# Altium footprint library ESP32S3WROOM1N8R2.PcbLib: 28 footprints (part 2 of 2)
Each footprint in its own frame and in the unit in brackets; x right, y up, seen from the top. Pads: shape width x height; smd on the part's side, far side on the other; paste and mask are expansions set on the pad; w line width, h text height; cw(c..) or ccw(c..) is an arc to the next point about the centre after c.
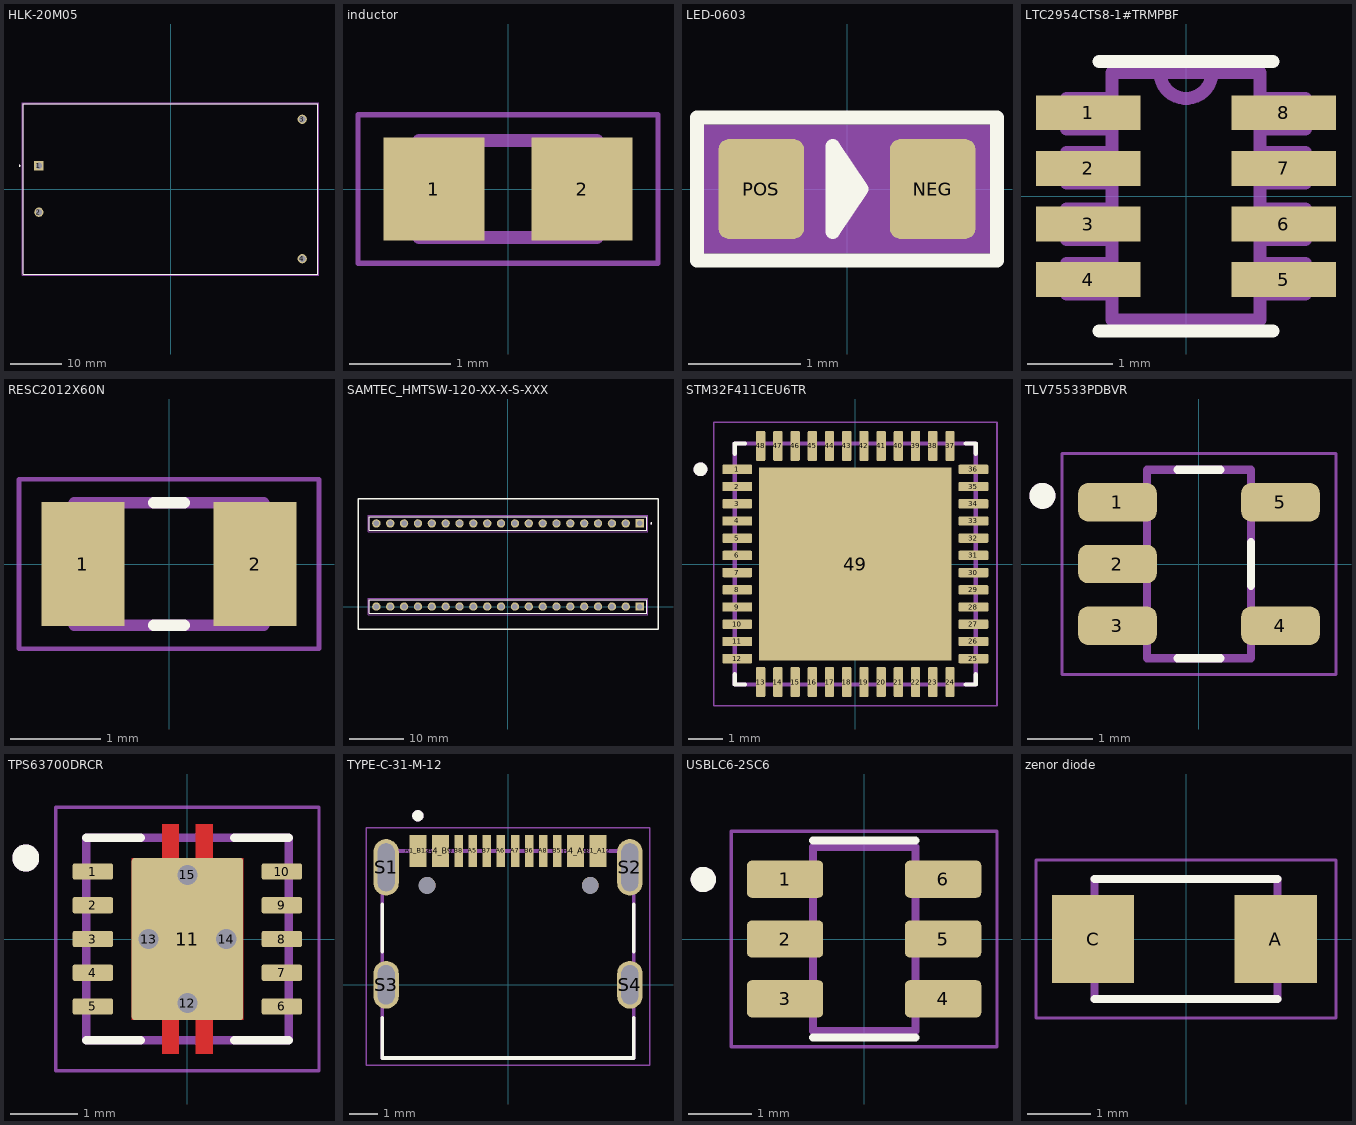
[diagram p1: the footprints below, top view; thin cyan lines are the x and y axes]

## HLK-20M05 [mm]
pads (4):
  rect 1.8x1.8 hole 1.2: 1(-25.5,4.5)
  round 1.8 hole 1.2: 2(-25.5,-4.5) 3(25.5,13.5) 4(25.5,-13.5)
Top Overlay:
  circle w0.2: c-29.25,4.5 r0.1
  lines w0.127: -28.5,-16.5 28.5,-16.5 28.5,16.5 -28.5,16.5 -28.5,-16.5
Mechanical 13:
  circle w0.2: c-29.25,4.5 r0.1
  lines w0.127: -28.5,-16.5 28.5,-16.5 28.5,16.5 -28.5,16.5 -28.5,-16.5
Mechanical 15:
  lines w0.05: -28.75,-16.75 28.75,-16.75 28.75,16.75 -28.75,16.75 -28.75,-16.75
3D body "step_temp.STEP": height 22.5, standoff -5, extent -28.5,-16.5 28.5,16.5

## inductor [mm]
pads (2):
  rect 1x1.02 smd: 1(-0.735,0) 2(0.735,0)
Mechanical 13:
  lines w0.127: -0.88,-0.48 0.88,-0.48 0.88,0.48 -0.88,0.48 -0.88,-0.48
Mechanical 15:
  lines w0.05: -1.485,-0.735 1.485,-0.735 1.485,0.735 -1.485,0.735 -1.485,-0.735

## LED-0603 [mil]
pads (2):
  rrect25% 30x35 smd: NEG(30,0) POS(-30,0)
Top Overlay:
  lines w5: 0,-7.5 0,7.5 ; 0,-7.5 5,0 0,7.5 ; 0,-7.5 -5,-15 -5,15 0,7.5 ; -52.5,-25 -52.5,25 52.5,25 52.5,-25 -52.5,-25
Mechanical 15:
  region: 50,-22.52 -50.04,-22.52 -50.04,22.5 50,22.5

## LTC2954CTS8-1#TRMPBF [mil]
pads (8):
  rect 48x16 smd: 1(-45,38.39) 2(-45,12.8) 3(-45,-12.8) 4(-45,-38.39) 5(45,-38.39) 6(45,-12.8) 7(45,12.8) 8(45,38.39)
Top Overlay:
  lines w6: -40,-62 40,-62 ; -40,62 40,62
Mechanical 13:
  lines w6: -12,57 ccw(c0,57) 12,57 ; -12,57 12,57 ; -12,57 -34,57 -34,-57 34,-57 34,57 12,57 ; -55,-45 -55,-31 -34,-31 -34,-45 -55,-45 ; -55,-20 -55,-6 -34,-6 -34,-20 -55,-20 ; -55,6 -55,20 -34,20 -34,6 -55,6 ; -55,31 -55,45 -34,45 -34,31 -55,31 ; 34,-45 34,-31 55,-31 55,-45 34,-45 ; 34,-20 34,-6 55,-6 55,-20 34,-20 ; 34,6 34,20 55,20 55,6 34,6 ; 34,31 34,45 55,45 55,31 34,31

## RESC2012X60N [mm]
pads (2):
  rect 0.92x1.38 smd: 1(-0.955,0) 2(0.955,0)
Top Overlay:
  lines w0.127: -0.17,-0.68 0.17,-0.68 ; -0.17,0.68 0.17,0.68
Mechanical 13:
  lines w0.127: -1.05,-0.68 -1.05,0.68 1.05,0.68 1.05,-0.68 -1.05,-0.68
Mechanical 15:
  lines w0.05: -1.665,-0.94 -1.665,0.94 1.665,0.94 1.665,-0.94 -1.665,-0.94
3D body "step_temp.STEP": height 0.6, standoff 0, extent -1,-0.625 1,0.625

## SAMTEC_HMTSW-120-XX-X-S-XXX [mm]
pads (40):
  rect 1.53x1.53 / inner round 1.53 / far side rect 1.53x1.53 hole 1.02: 01(24.13,15.24) 21(24.13,0)
  round 1.53 hole 1.02: 02(21.59,15.24) 03(19.05,15.24) 04(16.51,15.24) 05(13.97,15.24) 06(11.43,15.24) 07(8.89,15.24) 08(6.35,15.24) 09(3.81,15.24) 10(1.27,15.24) 11(-1.27,15.24) 12(-3.81,15.24) 13(-6.35,15.24) 14(-8.89,15.24) 15(-11.43,15.24) 16(-13.97,15.24) 17(-16.51,15.24) 18(-19.05,15.24) 19(-21.59,15.24) 20(-24.13,15.24) 22(21.59,0) 23(19.05,0) 24(16.51,0) 25(13.97,0) 26(11.43,0) 27(8.89,0) 28(6.35,0) 29(3.81,0) 30(1.27,0) 31(-1.27,0) 32(-3.81,0) 33(-6.35,0) 34(-8.89,0) 35(-11.43,0) 36(-13.97,0) 37(-16.51,0) 38(-19.05,0) 39(-21.59,0) 40(-24.13,0)
Top Overlay:
  circle w0.2: c26.289,15.24 r0.1
  lines w0.2: -25.4,-1.24 -25.4,1.24 25.4,1.24 25.4,-1.24 -25.4,-1.24 ; -25.4,14 -25.4,16.48 25.4,16.48 25.4,14 -25.4,14
  lines w0.254: -27.5,-4.2 27.5,-4.2 27.5,19.8 -27.5,19.8 -27.5,-4.2
Mechanical 13:
  circle w0.2: c26.289,15.24 r0.1
  lines w0.1: -25.4,-1.24 25.4,-1.24 25.4,1.24 -25.4,1.24 -25.4,-1.24 ; -25.4,14 25.4,14 25.4,16.48 -25.4,16.48 -25.4,14
Mechanical 15:
  lines w0.05: -25.65,-1.49 25.65,-1.49 25.65,1.49 -25.65,1.49 -25.65,-1.49 ; -25.65,13.75 25.65,13.75 25.65,16.73 -25.65,16.73 -25.65,13.75

## STM32F411CEU6TR [mm]
height 0.65
pads (49):
  rrect25% 0.87x0.27 smd: 1(-3.43,2.75) 2(-3.43,2.25) 3(-3.43,1.75) 4(-3.43,1.25) 5(-3.43,0.75) 6(-3.43,0.25) 7(-3.43,-0.25) 8(-3.43,-0.75) 9(-3.43,-1.25) 10(-3.43,-1.75) 11(-3.43,-2.25) 12(-3.43,-2.75) 25(3.43,-2.75) 26(3.43,-2.25) 27(3.43,-1.75) 28(3.43,-1.25) 29(3.43,-0.75) 30(3.43,-0.25) 31(3.43,0.25) 32(3.43,0.75) 33(3.43,1.25) 34(3.43,1.75) 35(3.43,2.25) 36(3.43,2.75)
  rrect25% 0.27x0.87 smd: 13(-2.75,-3.43) 14(-2.25,-3.43) 15(-1.75,-3.43) 16(-1.25,-3.43) 17(-0.75,-3.43) 18(-0.25,-3.43) 19(0.25,-3.43) 20(0.75,-3.43) 21(1.25,-3.43) 22(1.75,-3.43) 23(2.25,-3.43) 24(2.75,-3.43) 37(2.75,3.43) 38(2.25,3.43) 39(1.75,3.43) 40(1.25,3.43) 41(0.75,3.43) 42(0.25,3.43) 43(-0.25,3.43) 44(-0.75,3.43) 45(-1.25,3.43) 46(-1.75,3.43) 47(-2.25,3.43) 48(-2.75,3.43)
  rect 5.6x5.6 smd paste-4: 49(0,0)
Top Overlay:
  circle w0.2: c-4.5,2.75 r0.1
  lines w0.127: -3.5,-3.205 -3.5,-3.5 -3.205,-3.5 ; -3.5,3.205 -3.5,3.5 -3.205,3.5 ; 3.205,-3.5 3.5,-3.5 3.5,-3.205 ; 3.205,3.5 3.5,3.5 3.5,3.205
Top Paste:
  region: -0.51,0.51 -2.29,0.51 -2.29,2.29 -0.51,2.29
  region: 2.29,0.51 0.51,0.51 0.51,2.29 2.29,2.29
  region: -0.51,-2.29 -2.29,-2.29 -2.29,-0.51 -0.51,-0.51
  region: 2.29,-2.29 0.51,-2.29 0.51,-0.51 2.29,-0.51
Mechanical 13:
  circle w0.2: c-4.5,2.75 r0.1
  lines w0.127: -3.5,-3.5 3.5,-3.5 3.5,3.5 -3.5,3.5 -3.5,-3.5
Mechanical 15:
  lines w0.05: -4.115,-4.115 4.115,-4.115 4.115,4.115 -4.115,4.115 -4.115,-4.115
3D body "step_temp.STEP": height 0.6, standoff 0, extent -3.5,-3.5 3.5,3.5

## TLV75533PDBVR [mm]
pads (5):
  rrect50% 1.21x0.59 smd: 1(-1.255,0.95) 2(-1.255,0) 3(-1.255,-0.95) 4(1.255,-0.95) 5(1.255,0.95)
Top Overlay:
  circle w0.2: c-2.41,1.05 r0.1
  lines w0.127: -0.33,-1.45 0.33,-1.45 ; -0.33,1.45 0.33,1.45 ; 0.8,-0.335 0.8,0.335
Mechanical 13:
  circle w0.2: c-2.41,1.05 r0.1
  lines w0.127: -0.8,-1.45 0.8,-1.45 0.8,1.45 -0.8,1.45 -0.8,-1.45
Mechanical 15:
  lines w0.05: -2.11,-1.7 -2.11,1.7 2.11,1.7 2.11,-1.7 -2.11,-1.7
3D body "step_temp.STEP": height 1.45, standoff 0, extent -1.4,-1.45 1.4,1.45

## TPS63700DRCR [mm]
pads (15):
  rrect25% 0.6x0.24 smd mask+0: 1(-1.4,1) 2(-1.4,0.5) 3(-1.4,0) 4(-1.4,-0.5) 5(-1.4,-1) 6(1.4,-1) 7(1.4,-0.5) 8(1.4,0) 9(1.4,0.5) 10(1.4,1)
  rrect5% 1.65x2.4 smd paste-2 mask+0: 11(0,0)
  round 0.3 hole 0.3 mask+0: 12(0,-0.95) 13(-0.575,0) 14(0.575,0) 15(0,0.95)
Top Layer:
  region: 0.375,1.2 0.825,1.2 0.825,-1.2 0.375,-1.2 0.375,-1.7 0.125,-1.7 0.125,-1.2 -0.125,-1.2 -0.125,-1.7 -0.375,-1.7 -0.375,-1.2 -0.825,-1.2 -0.825,1.2 -0.375,1.2 -0.375,1.7 -0.125,1.7 -0.125,1.2 0.125,1.2 0.125,1.7 0.375,1.7
Top Overlay:
  circle w0.2: c-2.395,1.2 r0.1
  lines w0.127: -1.5,-1.5 -0.695,-1.5 ; -1.5,1.5 -0.695,1.5 ; 0.695,-1.5 1.5,-1.5 ; 0.695,1.5 1.5,1.5
Top Paste:
  region: 0.75,0.1 -0.75,0.1 -0.75,1.16 0.75,1.16
  region: 0.75,-1.16 -0.75,-1.16 -0.75,-0.1 0.75,-0.1
  region: 0.375,1.36 0.125,1.36 0.125,1.7 0.375,1.7
  region: -0.125,1.36 -0.375,1.36 -0.375,1.7 -0.125,1.7
  region: 0.375,-1.7 0.125,-1.7 0.125,-1.36 0.375,-1.36
  region: -0.125,-1.7 -0.375,-1.7 -0.375,-1.36 -0.125,-1.36
Top Solder:
  region: 0.445,1.27 0.895,1.27 0.895,-1.27 0.445,-1.27 0.445,-1.77 0.055,-1.77 0.055,-1.27 -0.055,-1.27 -0.055,-1.77 -0.445,-1.77 -0.445,-1.27 -0.895,-1.27 -0.895,1.27 -0.445,1.27 -0.445,1.77 -0.055,1.77 -0.055,1.27 0.055,1.27 0.055,1.77 0.445,1.77
  region: 1.77,0.81 1.03,0.81 1.03,1.19 1.77,1.19
  region: 1.77,0.31 1.03,0.31 1.03,0.69 1.77,0.69
  region: 1.77,-0.19 1.03,-0.19 1.03,0.19 1.77,0.19
  region: 1.77,-0.69 1.03,-0.69 1.03,-0.31 1.77,-0.31
  region: 1.77,-1.19 1.03,-1.19 1.03,-0.81 1.77,-0.81
  region: -1.03,-1.19 -1.77,-1.19 -1.77,-0.81 -1.03,-0.81
  region: -1.03,-0.69 -1.77,-0.69 -1.77,-0.31 -1.03,-0.31
  region: -1.03,-0.19 -1.77,-0.19 -1.77,0.19 -1.03,0.19
  region: -1.03,0.31 -1.77,0.31 -1.77,0.69 -1.03,0.69
  region: -1.03,0.81 -1.77,0.81 -1.77,1.19 -1.03,1.19
Mechanical 13:
  circle w0.2: c-2.395,1.2 r0.1
  lines w0.127: -1.5,-1.5 -1.5,1.5 1.5,1.5 1.5,-1.5 -1.5,-1.5
Mechanical 15:
  lines w0.05: -1.95,-1.95 -1.95,1.95 1.95,1.95 1.95,-1.95 -1.95,-1.95
3D body "step_temp.STEP": height 1, standoff 0, extent -1.5,-1.5 1.5,1.5

## TYPE-C-31-M-12 [mm]
height 3.26
pads (18):
  rect 0.6x1.14 smd mask+0.05: A1_B12(-3.2,4.75) A4_B9(-2.4,4.75) B1_A12(3.2,4.75) B4_A9(2.4,4.75)
  rect 0.3x1.14 smd mask+0.05: A5(-1.25,4.75) A6(-0.25,4.75) A7(0.25,4.75) A8(1.25,4.75) B5(1.75,4.75) B6(0.75,4.75) B7(-0.75,4.75) B8(-1.75,4.75)
  oval 0.9x2 hole 0.6 slot 1.7 at 90 deg: S1(-4.325,4.17) S2(4.325,4.17)
  oval 0.9x1.7 hole 0.6 slot 1.4 at 90 deg: S3(-4.325,0) S4(4.325,0)
  round 0.6 hole 0.6 unplated: ""(-2.87,3.531) ""(2.921,3.531)
Top Overlay:
  circle w0.2: c-3.2,6 r0.1
  lines w0.127: -4.47,-1.17 -4.47,-2.6 4.47,-2.6 4.47,-1.17 ; -4.47,1.17 -4.47,2.85 ; 4.47,1.17 4.47,2.85
Mechanical 13:
  circle w0.2: c-3.2,6 r0.1
  lines w0.127: -4.47,-2.6 -4.47,4.75 4.47,4.75 4.47,-2.6 -4.47,-2.6
Mechanical 15:
  lines w0.05: -5.025,-2.85 5.025,-2.85 5.025,5.57 -5.025,5.57 -5.025,-2.85
3D body "step_temp.STEP": height 3.31, standoff -0.99, extent -4.47,-2.6 4.47,5.305

## USBLC6-2SC6 [mm]
pads (6):
  rrect25% 1.21x0.59 smd: 1(-1.255,0.95) 2(-1.255,0) 3(-1.255,-0.95) 4(1.255,-0.95) 5(1.255,0) 6(1.255,0.95)
Top Overlay:
  circle w0.2: c-2.555,0.945 r0.1
  lines w0.127: -0.813,-1.565 0.813,-1.565 ; -0.813,1.565 0.813,1.565
Mechanical 13:
  circle w0.2: c-2.555,0.945 r0.1
  lines w0.127: -0.813,-1.462 0.813,-1.462 0.813,1.462 -0.813,1.462 -0.813,-1.462
Mechanical 15:
  lines w0.05: -2.11,-1.713 -2.11,1.713 2.11,1.713 2.11,-1.713 -2.11,-1.713
3D body "step_temp.STEP": height 1.4, standoff -0.05, extent -1.4,-1.462 1.4,1.462

## zenor diode [mm]
pads (2):
  rect 1.3x1.4 smd: A(1.422,0) C(-1.473,0)
Top Overlay:
  lines w0.127: -1.45,-0.95 1.45,-0.95 ; -1.45,0.95 1.45,0.95
Mechanical 13:
  lines w0.127: -1.45,-0.95 -1.45,0.95 1.45,0.95 1.45,-0.95 -1.45,-0.95
Mechanical 15:
  lines w0.05: -2.377,-1.25 2.377,-1.25 2.377,1.25 -2.377,1.25 -2.377,-1.25
3D body "step_temp.STEP": height 1.08, standoff 0, extent -1.85,-0.9 1.85,0.9